# Altium schematic symbol library Amplifiers.SchLib: 46 symbols
Pins are listed as number, name and electrical type; pins without a type are passive.

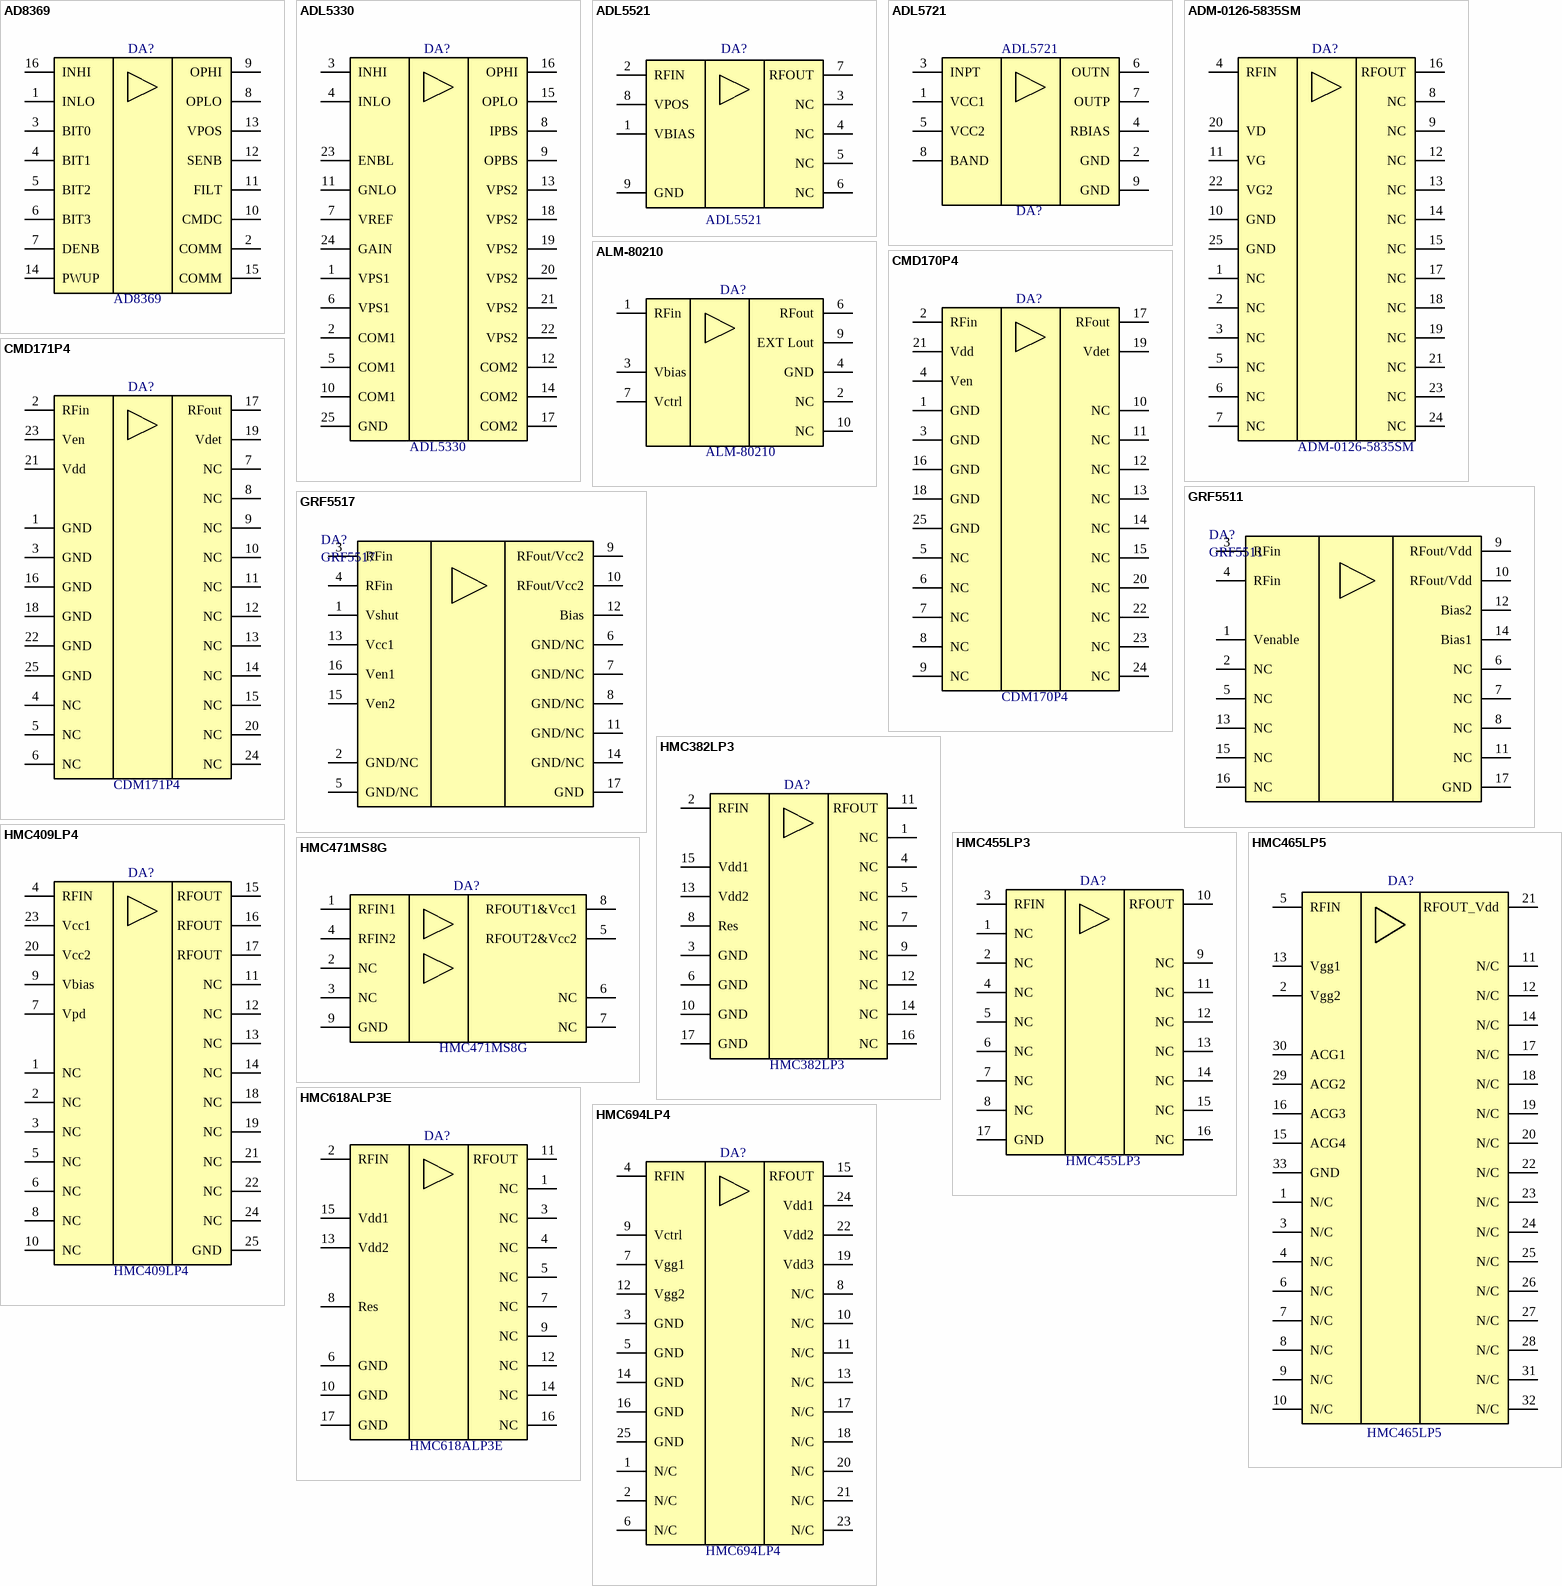
[diagram p0: symbols AD8369 to HMC694LP4]

## AD8369
designator DA?
45 dB Digitally Controlled VGA LF to 600 MHz; Manufacturer: Analog Devices; PartNumber: AD8369
footprint SOP16P65_500X640X120L60X24N (Small Outline Pkg (SOP), 0.65 mm pitch; 16 pin, 5.00 mm L X 4.40 mm W X 1.20 mm H body)
pins: 1 INLO, 2 COMM, 3 BIT0, 4 BIT1, 5 BIT2, 6 BIT3, 7 DENB, 8 OPLO, 9 OPHI, 10 CMDC, 11 FILT, 12 SENB, 13 VPOS, 14 PWUP, 15 COMM, 16 INHI

## ADL5330
designator DA?
10 MHz to 3 GHz VGA with 60 dB Gain Control Range; Manufacturer: Analog Devices; PartNumber: ADL5330
footprint ADL5330 (AD 24-Lead Lead Frame Chip Scale Package  [LFCSP_VQ] 4 mm ? 4 mm Body, Very Thin Quad  (CP-24-2))
pins: 1 VPS1, 2 COM1, 3 INHI, 4 INLO, 5 COM1, 6 VPS1, 7 VREF, 8 IPBS, 9 OPBS, 10 COM1, 11 GNLO, 12 COM2, 13 VPS2, 14 COM2, 15 OPLO, 16 OPHI, 17 COM2, 18 VPS2, 19 VPS2, 20 VPS2, 21 VPS2, 22 VPS2, 23 ENBL, 24 GAIN, 25 GND

## ADL5521
designator DA?
400 MHz to 4000 MHz Low Noise Amplifier; Manufacturer: Analog Devices; PartNumber: ADL5521
footprint SON9P50_300X300X90L40X24T174X145N (Small Outline No-Lead (SON with Tab), 0.50 mm pitch; 8 pin, 3.00 mm L X 3.00 mm W X 0.90 mm H body)
pins: 1 VBIAS, 2 RFIN, 3 NC, 4 NC, 5 NC, 6 NC, 7 RFOUT, 8 VPOS, 9 GND

## ADL5721
designator DA?
5.9 GHz to 8.5 GHz, Low Noise Amplifier; Manufacturer: Analog Devices; PartNumber: ADL5721
footprint SON9P50_200X200X60L35X25T160X100N (Small Outline No-Lead (SON with Tab), 0.50 mm pitch; 8 pin, 2.00 mm L X 2.00 mm W X 0.60 mm H body)
pins: 1 VCC1, 2 GND, 3 INPT, 4 RBIAS, 5 VCC2, 6 OUTN, 7 OUTP, 8 BAND, 9 GND

## ADM-0126-5835SM
designator DA?
Broadband distributed amplifier 0.7 to 26.5 GHz; Manufacturer: Broadcom; PartNumber: ADM-0126-5835SM
footprint PQFN25P50_390X390X90L32X30T250N (Pullback Quad Flat No-Lead (PQFN with Tab), 0.50 mm pitch; square, 6 pin X 6 pin, 3.90 mm L X 3.90 mm W X 0.90 mm H body)
pins: 1 NC, 2 NC, 3 NC, 4 RFIN, 5 NC, 6 NC, 7 NC, 8 NC, 9 NC, 10 GND, 11 VG, 12 NC, 13 NC, 14 NC, 15 NC, 16 RFOUT, 17 NC, 18 NC, 19 NC, 20 VD, 21 NC, 22 VG2, 23 NC, 24 NC, 25 GND

## ALM-80210
designator DA?
0.25W Analog Variable Gain Amplifier; Manufacturer: Broadcom; PartNumber: ALM-80210
footprint ALM-80210 (AVAGO ALM-80210)
pins: 1 RFin, 2 NC, 3 Vbias, 4 GND, 6 RFout, 7 Vctrl, 9 EXT Lout, 10 NC

## CMD170P4
designator DA?, comment CDM170P4
7.5-9 GHz Driver Amplifier; Manufacturer: Custom MMIC; PartNumber: CDM170P4
footprint QFN25P50_400X400X100L40X24T245N (Quad Flat No-Lead (QFN with Tab), 0.50 mm pitch; square, 6 pin X 6 pin, 4.00 mm L X 4.00 mm W X 1.00 mm H body)
pins: 1 GND, 2 RFin, 3 GND, 4 Ven, 5 NC, 6 NC, 7 NC, 8 NC, 9 NC, 10 NC, 11 NC, 12 NC, 13 NC, 14 NC, 15 NC, 16 GND, 17 RFout, 18 GND, 19 Vdet, 20 NC, 21 Vdd, 22 NC, 23 NC, 24 NC, 25 GND

## CMD171P4
designator DA?, comment CDM171P4
9.5-11 GHz Driver Amplifier; Manufacturer: Custom MMIC; PartNumber: CDM171P4
footprint QFN25P50_400X400X100L40X24T245N (Quad Flat No-Lead (QFN with Tab), 0.50 mm pitch; square, 6 pin X 6 pin, 4.00 mm L X 4.00 mm W X 1.00 mm H body)
pins: 1 GND, 2 RFin, 3 GND, 4 NC, 5 NC, 6 NC, 7 NC, 8 NC, 9 NC, 10 NC, 11 NC, 12 NC, 13 NC, 14 NC, 15 NC, 16 GND, 17 RFout, 18 GND, 19 Vdet, 20 NC, 21 Vdd, 22 GND, 23 Ven, 24 NC, 25 GND

## GRF5511
designator DA?
High Linearity Power Amplifier Tuning Range: 0.7 to 6 GHz; Manufacturer: Guerrilla-RF; ComponentLink1Description: Guerrilla-RF page; ComponentLink1URL: https://www.guerrilla-rf.com/products/detail/sku/GRF5511; PartNumber: GRF5511
footprint GRF5511 (Guerrilla-RF 3.0 mm QFN-16)
pins: 1 Venable, 2 NC, 3 RFin, 4 RFin, 5 NC, 6 NC, 7 NC, 8 NC, 9 RFout/Vdd, 10 RFout/Vdd, 11 NC, 12 Bias2, 13 NC, 14 Bias1, 15 NC, 16 NC, 17 GND

## GRF5517
designator DA?
High Linearity Power Amplifier Tuning Range: 1.7 to 1.8 GHz; Manufacturer: Guerrilla-RF; ComponentLink1Description: Guerrilla-RF page; ComponentLink1URL: https://www.guerrilla-rf.com/products/detail/sku/GRF5517; PartNumber: GRF5517
footprint GRF5517 (Guerrilla-RF 3.0 mm QFN-16)
pins: 1 Vshut, 2 GND/NC, 3 RFin, 4 RFin, 5 GND/NC, 6 GND/NC, 7 GND/NC, 8 GND/NC, 9 RFout/Vcc2, 10 RFout/Vcc2, 11 GND/NC, 12 Bias, 13 Vcc1, 14 GND/NC, 15 Ven2, 16 Ven1, 17 GND

## HMC382LP3
designator DA?
LOW NOISE AMPLIFIER, 1.7 - 2.2 GHz; Manufacturer: Analog Devices; PartNumber: HMC382LP3
footprint QFN17P50_300X300X100L40X24T173N (Quad Flat No-Lead (QFN with Tab), 0.50 mm pitch; square, 4 pin X 4 pin, 3.00 mm L X 3.00 mm W X 1.00 mm H body)
pins: 1 NC, 2 RFIN, 3 GND, 4 NC, 5 NC, 6 GND, 7 NC, 8 Res, 9 NC, 10 GND, 11 RFOUT, 12 NC, 13 Vdd2, 14 NC, 15 Vdd1, 16 NC, 17 GND

## HMC409LP4
designator DA?
GaAs InGaP HBT 1 WATT POWER AMPLIFIER, 3.3 - 3.8 GHz; Manufacturer: Analog Devices; PartNumber: HMC409LP4
footprint QFN25P50_400X400X100L40X24T280N (Quad Flat No-Lead (QFN with Tab), 0.50 mm pitch; square, 6 pin X 6 pin, 4.00 mm L X 4.00 mm W X 1.00 mm H body)
pins: 1 NC, 2 NC, 3 NC, 4 RFIN, 5 NC, 6 NC, 7 Vpd, 8 NC, 9 Vbias, 10 NC, 11 NC, 12 NC, 13 NC, 14 NC, 15 RFOUT, 16 RFOUT, 17 RFOUT, 18 NC, 19 NC, 20 Vcc2, 21 NC, 22 NC, 23 Vcc1, 24 NC, 25 GND

## HMC455LP3
designator DA?
InGaP HBT ½ Watt High IP3 AMPLIFIER, 1.7 - 2.5 GHz; Manufacturer: Analog Devices; PartNumber: HMC455LP3
footprint QFN17P50_300X300X100L40X24T173N (Quad Flat No-Lead (QFN with Tab), 0.50 mm pitch; square, 4 pin X 4 pin, 3.00 mm L X 3.00 mm W X 1.00 mm H body)
pins: 1 NC, 2 NC, 3 RFIN, 4 NC, 5 NC, 6 NC, 7 NC, 8 NC, 9 NC, 10 RFOUT, 11 NC, 12 NC, 13 NC, 14 NC, 15 NC, 16 NC, 17 GND

## HMC465LP5
designator DA?
GaAs PHEMT MMIC MODULATOR DRIVER  AMPLIFIER, DC - 20 GHz; Naumfacturer: Analog Devices; PartNumber: HMC465LP5; ComponentLink1Description: Product Page; ComponentLink1URL: https://www.analog.com/en/products/hmc465lp5.html#product-overview; ComponentLink2Description: DataSheet; ComponentLink2URL: https://www.analog.com/media/en/technical-documentation/data-sheets/hmc465.pdf
footprint QFN33P50_500X500X90L40X25T370N (Quad Flat No-Lead (QFN with Tab), 0.50 mm pitch; square, 8 pin X 8 pin, 5.00 mm L X 5.00 mm W X 0.90 mm H body)
pins: 1 N/C, 2 Vgg2, 3 N/C, 4 N/C, 5 RFIN, 6 N/C, 7 N/C, 8 N/C, 9 N/C, 10 N/C, 11 N/C, 12 N/C, 13 Vgg1, 14 N/C, 15 ACG4, 16 ACG3, 17 N/C, 18 N/C, 19 N/C, 20 N/C, 21 RFOUT_Vdd, 22 N/C, 23 N/C, 24 N/C, 25 N/C, 26 N/C, 27 N/C, 28 N/C, 29 ACG2, 30 ACG1, 31 N/C, 32 N/C, 33 GND

## HMC471MS8G
designator DA?
SiGe HBT DUAL CHANNEL GAIN BLOCK MMIC AMPLIFIER, DC - 5 GHz; Manufacturer: Analog Devices; PartNumber: HMC471MS8G
footprint SOP9P65_300X488X110L60X30T241X178N (Small Outline Pkg (SOP with Tab), 0.65 mm pitch; 8 pin, 3.00 mm L X 3.00 mm W X 1.10 mm H body)
pins: 1 RFIN1, 2 NC, 3 NC, 4 RFIN2, 5 RFOUT2&Vcc2, 6 NC, 7 NC, 8 RFOUT1&Vcc1, 9 GND

## HMC618ALP3E
designator DA?
GaAs SMT pHEMT LOW NOISE AMPLIFIER, 1.2 - 2.2 GHz; Manufacturer: Analog Devices; PartNumber: HMC618ALP3E
footprint QFN17P50_300X300X100L40X24T173N (Quad Flat No-Lead (QFN with Tab), 0.50 mm pitch; square, 4 pin X 4 pin, 3.00 mm L X 3.00 mm W X 1.00 mm H body)
pins: 1 NC, 2 RFIN, 3 NC, 4 NC, 5 NC, 6 GND, 7 NC, 8 Res, 9 NC, 10 GND, 11 RFOUT, 12 NC, 13 Vdd2, 14 NC, 15 Vdd1, 16 NC, 17 GND

## HMC694LP4
designator DA?
GaAs MMIC ANALOG VARIABLE GAIN AMPLIFIER, 6 - 17 GHz; Manufacturer: Analog Devices; PartNumber: HMC694LP4
footprint QFN25P50_400X400X100L40X24T280N (Quad Flat No-Lead (QFN with Tab), 0.50 mm pitch; square, 6 pin X 6 pin, 4.00 mm L X 4.00 mm W X 1.00 mm H body)
pins: 1 N/C, 2 N/C, 3 GND, 4 RFIN, 5 GND, 6 N/C, 7 Vgg1, 8 N/C, 9 Vctrl, 10 N/C, 11 N/C, 12 Vgg2, 13 N/C, 14 GND, 15 RFOUT, 16 GND, 17 N/C, 18 N/C, 19 Vdd3, 20 N/C, 21 N/C, 22 Vdd2, 23 N/C, 24 Vdd1, 25 GND

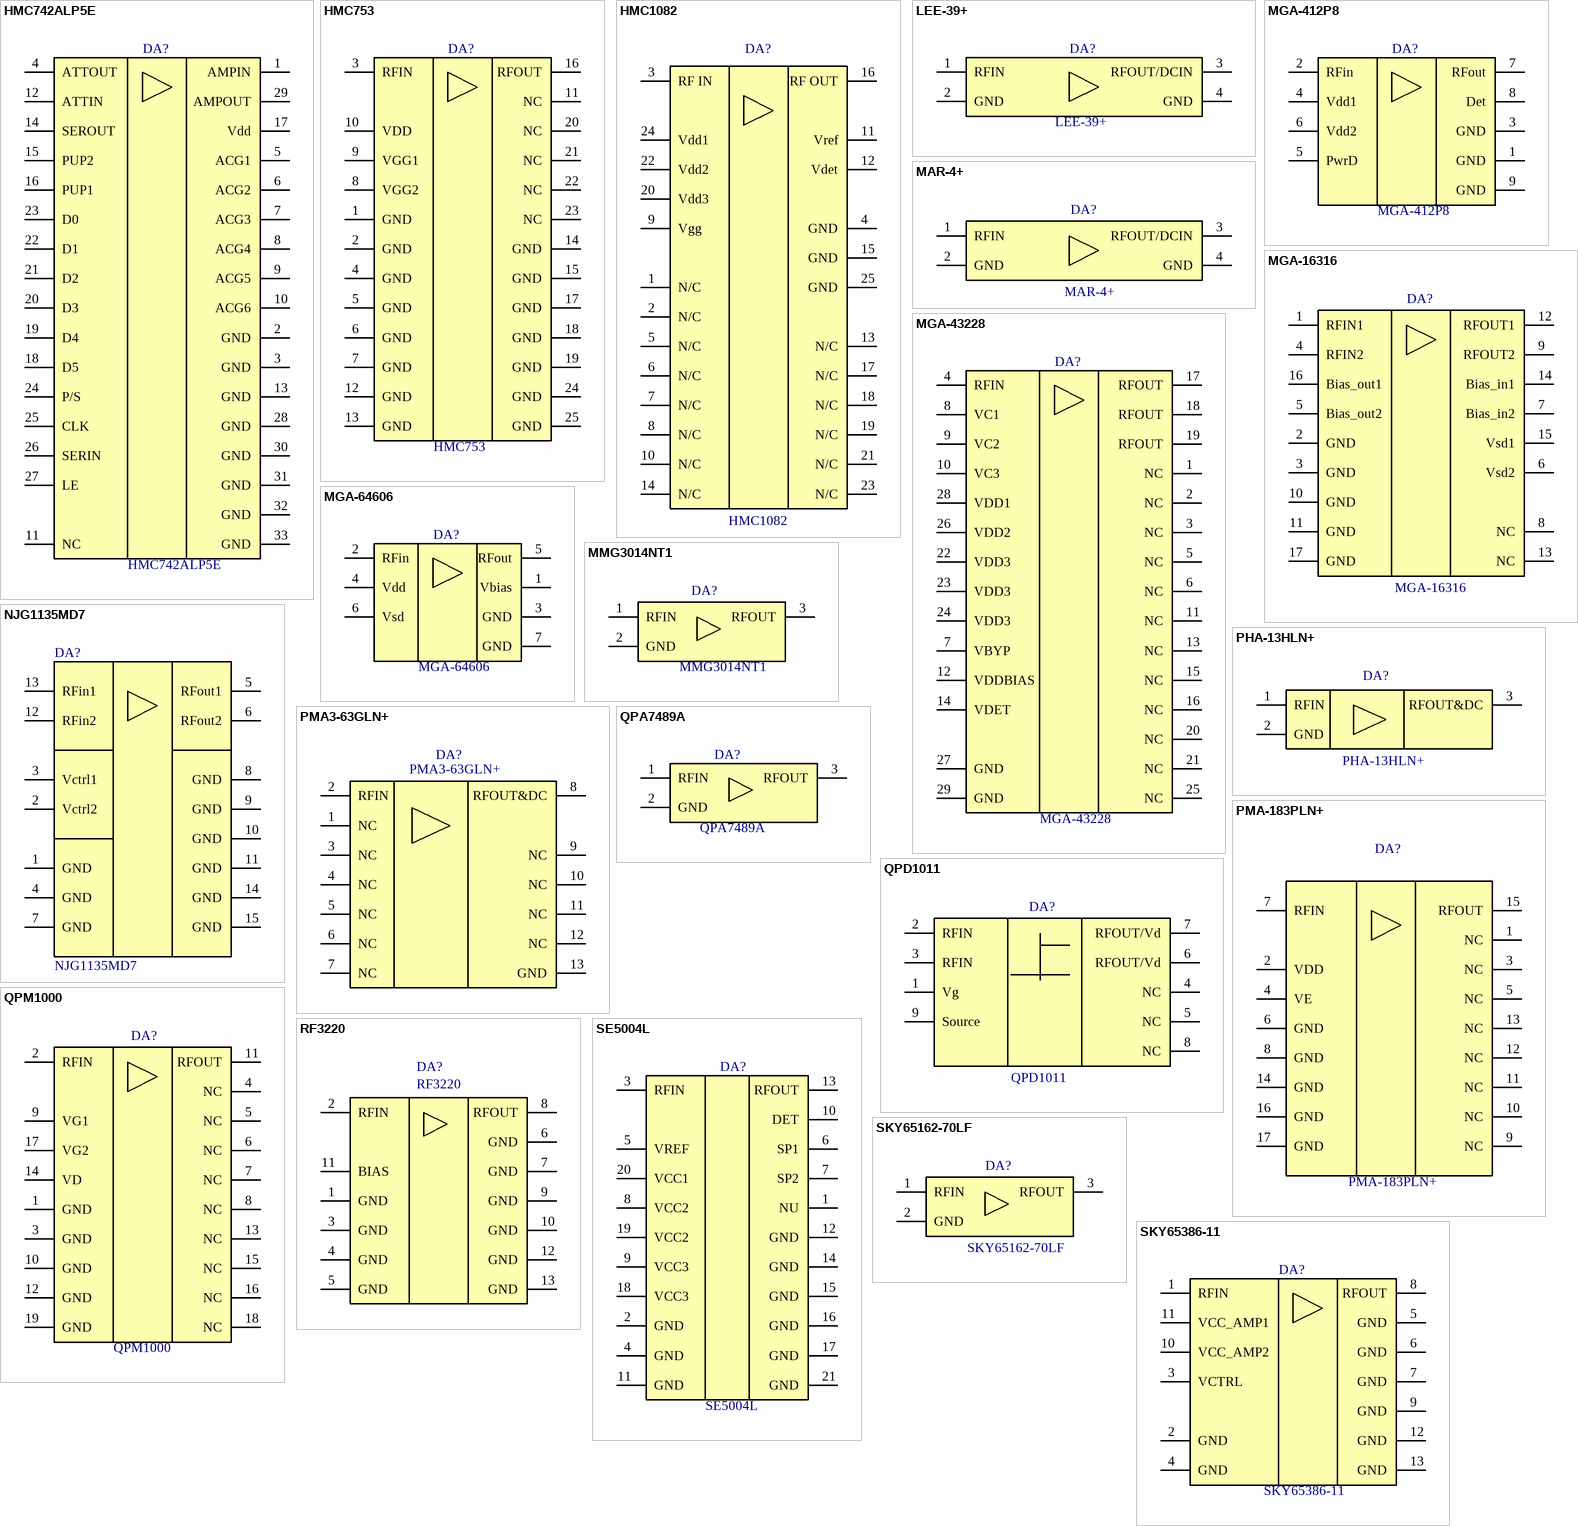
[diagram p1: symbols HMC742ALP5E to SKY65386-11]

## HMC742ALP5E
designator DA?
0.5 dB LSB GaAs MMIC 6-BIT DIGITAL VARIABLE GAIN AMPLIFIER, 70 MHz - 4 GHz; Manufacturer: Analog Devices; PartNumber: HMC742ALP5E
footprint QFN33P50_500X500X100L40X24T380N (Quad Flat No-Lead (QFN with Tab), 0.50 mm pitch; square, 8 pin X 8 pin, 5.00 mm L X 5.00 mm W X 1.00 mm H body)
pins: 1 AMPIN, 2 GND, 3 GND, 4 ATTOUT, 5 ACG1, 6 ACG2, 7 ACG3, 8 ACG4, 9 ACG5, 10 ACG6, 11 NC, 12 ATTIN, 13 GND, 14 SEROUT, 15 PUP2, 16 PUP1, 17 Vdd, 18 D5, 19 D4, 20 D3, 21 D2, 22 D1, 23 D0, 24 P/S, 25 CLK, 26 SERIN, 27 LE, 28 GND, 29 AMPOUT, 30 GND, 31 GND, 32 GND, 33 GND

## HMC753
designator DA?
1 GHz to 11 GHz, GaAs, HEMT, MMIC Low Noise Amplifier; Manufacturer: Analog Devices; PartNumber: HMC753
footprint QFN25P50_400X400X95L40X25T270N (Quad Flat No-Lead (QFN with Tab), 0.50 mm pitch; square, 6 pin X 6 pin, 4.00 mm L X 4.00 mm W X 0.95 mm H body)
pins: 1 GND, 2 GND, 3 RFIN, 4 GND, 5 GND, 6 GND, 7 GND, 8 VGG2, 9 VGG1, 10 VDD, 11 NC, 12 GND, 13 GND, 14 GND, 15 GND, 16 RFOUT, 17 GND, 18 GND, 19 GND, 20 NC, 21 NC, 22 NC, 23 NC, 24 GND, 25 GND

## HMC1082
designator DA?
Power Amplifier 5.5-18 GHz, Gain 22 dB, P1dBout 24 dBm; Manufacturer: Analog Devices; PartNumber: HMC1082
footprint QFN25P50_400X400X100L40X24T280N (Quad Flat No-Lead (QFN with Tab), 0.50 mm pitch; square, 6 pin X 6 pin, 4.00 mm L X 4.00 mm W X 1.00 mm H body)
pins: 1 N/C, 2 N/C, 3 RF IN, 4 GND, 5 N/C, 6 N/C, 7 N/C, 8 N/C, 9 Vgg, 10 N/C, 11 Vref, 12 Vdet, 13 N/C, 14 N/C, 15 GND, 16 RF OUT, 17 N/C, 18 N/C, 19 N/C, 20 Vdd3, 21 N/C, 22 Vdd2, 23 N/C, 24 Vdd1, 25 GND

## LEE-39+
designator DA?
Monolithic Amplifier DC-8GHz; Manufacturer: Mini-Circuits; PartNumber: LEE-39+
footprint FG873 (Mini-Circuits case FG873)
pins: 1 RFIN, 2 GND, 3 RFOUT/DCIN, 4 GND

## MAR-4+
designator DA?
Murata Amplifier DC-1 GHz IP3 25.5 dBm; Manufacturer: Mini-Circuits; PartNumber: MAR-4+
footprint MAR-4+ CASE VV105 (Mini-Circuits CASE VV105)
pins: 1 RFIN, 2 GND, 3 RFOUT/DCIN, 4 GND

## MGA-412P8
designator DA?
GaAs Enhancement-mode pHEMT Power Amplifier optimized for IEEE 802.11b/g applications; Manufacturer: Broadcom; PartNumber: MGA-412P8
footprint MGA-412P8 (Small Outline No-Lead (SON with Tab), 0.50 mm pitch; 8 pin, 2.00 mm L X 2.00 mm W X 0.80 mm H body)
pins: 1 GND, 2 RFin, 3 GND, 4 Vdd1, 5 PwrD, 6 Vdd2, 7 RFout, 8 Det, 9 GND

## MGA-16316
designator DA?
Dual LNA for Balanced Application 1950 – 4000 MHz; Manufacturer: Broadcom; PartNumber: MGA-16316
footprint QFN17P65_400X400X95L55X30T210N (Quad Flat No-Lead (QFN with Tab), 0.65 mm pitch; square, 4 pin X 4 pin, 4.00 mm L X 4.00 mm W X 0.95 mm H body)
pins: 1 RFIN1, 2 GND, 3 GND, 4 RFIN2, 5 Bias_out2, 6 Vsd2, 7 Bias_in2, 8 NC, 9 RFOUT2, 10 GND, 11 GND, 12 RFOUT1, 13 NC, 14 Bias_in1, 15 Vsd1, 16 Bias_out1, 17 GND

## MGA-43228
designator DA?
(2.3–2.5) GHz 29dBm High Linearity Wireless Data Power Amplifier; Manufacturer: Broadcom; PartNumber: MGA-43228
footprint QFN29P50_500X500X90L40X25T360N (Quad Flat No-Lead (QFN with Tab), 0.50 mm pitch; square, 7 pin X 7 pin, 5.00 mm L X 5.00 mm W X 0.90 mm H body)
pins: 1 NC, 2 NC, 3 NC, 4 RFIN, 5 NC, 6 NC, 7 VBYP, 8 VC1, 9 VC2, 10 VC3, 11 NC, 12 VDDBIAS, 13 NC, 14 VDET, 15 NC, 16 NC, 17 RFOUT, 18 RFOUT, 19 RFOUT, 20 NC, 21 NC, 22 VDD3, 23 VDD3, 24 VDD3, 25 NC, 26 VDD2, 27 GND, 28 VDD1, 29 GND

## MGA-64606
designator DA?
Low Noise Amplifi er with switchable Bypass/Shutdown Mode in Low Profi le Package; Manufacturer: Broadcom; PartNumber: MGA-64606
footprint PSON7P50_130X200X55L25X25T110N (Pullback Small Outline No-Lead (PSON with Tab), 0.50 mm pitch; 6 pin, 1.30 mm L X 2.00 mm W X 0.55 mm H body)
pins: 1 Vbias, 2 RFin, 3 GND, 4 Vdd, 5 RFout, 6 Vsd, 7 GND

## MMG3014NT1
designator DA?
Heterojunction Bipolar Transistor  Technology (InGaP HBT) Broadband High Linearity Amplifier; Manufacturer: NXP; PartNumber: MMG3014NT1
footprint SOT89-150P415X160-3N (SOT89, 3-Leads, Body 4.50x2.50mm, Pitch 1.50mm, Lead Span 4.1mm, IPC Medium Density)
pins: 1 RFIN, 2 GND, 3 RFOUT

## NJG1135MD7
designator DA?
Dual Band LNA; Manufacturer: Analog Devices; Cathegory: New Japan Radio; PartNumber: NJG1135MD7; ComponentLink1Description: DataSheet; ComponentLink1URL: https://ru.mouser.com/datasheet/2/294/NJG1135MD7_E-275416.pdf
footprint NJG1135MD7
pins: 1 GND, 2 Vctrl2, 3 Vctrl1, 4 GND, 5 RFout1, 6 RFout2, 7 GND, 8 GND, 9 GND, 10 GND, 11 GND, 12 RFin2, 13 RFin1, 14 GND, 15 GND

## PHA-13HLN+
designator DA?
Ultra High Dynamic RangeMonolithic Amplifier 50Ω 1MHz to 1 GHz; Manufacturer: Mini-Circuits; PartNumber: PHA-13HLN+; ComponentLink1Description: Product Page; ComponentLink1URL: https://www.minicircuits.com/WebStore/dashboard.html?model=PHA-13LN%2B
footprint DF782 (Mini-Circuits case DF782)
pins: 1 RFIN, 2 GND, 3 RFOUT&DC

## PMA3-63GLN+
designator DA?
SMT Low Noise Amplifier, 1800 - 6000 MHz, 50Ω; Manufacturer: Mini-Circuits; PartNumber: PMA3-63GLN+; ComponentLink1Description: Mini-circuits page; ComponentLink1URL: https://www.minicircuits.com/WebStore/dashboard.html?model=PMA3-63GLN%2B
footprint QFN13P51_300X300X99L41X23T145N (Quad Flat No-Lead (QFN with Tab), 0.51 mm pitch; square, 3 pin X 3 pin, 3.00 mm L X 3.00 mm W X 0.99 mm H body)
pins: 1 NC, 2 RFIN, 3 NC, 4 NC, 5 NC, 6 NC, 7 NC, 8 RFOUT&DC, 9 NC, 10 NC, 11 NC, 12 NC, 13 GND

## PMA-183PLN+
designator DA?
SMT Low Noise Amplifier, 6000 - 18000 MHz, 50Ω; Manufacturer: Mini-Circuits; PartNumber: PMA-183PLN+; ComponentLink1Description: ProductPage; ComponentLink1URL: https://www.minicircuits.com/WebStore/dashboard.html?model=PMA-183PLN%2B
footprint JV2579 (QFN, 17-Leads, Body   2.5x3.5mm, Pitch 0.51mm, Thermal Pad 2x1mm, IPC Medium Density)
pins: 1 NC, 2 VDD, 3 NC, 4 VE, 5 NC, 6 GND, 7 RFIN, 8 GND, 9 NC, 10 NC, 11 NC, 12 NC, 13 NC, 14 GND, 15 RFOUT, 16 GND, 17 GND

## QPA7489A
designator DA?
DC – 3500 MHz Cascadable SiGe HBT Amplifier; Manufacturer: Qorvo; PartNumber: QPA7489A
footprint SOT89-150P355X160-3N (SOT89, 3-Leads, Body 4.50x2.50mm, Pitch 1.50mm, Lead Span 3.5mm, IPC Medium Density)
pins: 1 RFIN, 2 GND, 3 RFOUT

## QPD1011
designator DA?
30 – 1200 MHz, 50 V, 7 W GaN RF Input-Matched Transistor; Manufacturer: Qorvo; PartNumber: QPD1011
footprint SON9P127_500X600X90L59X63T444X396N (Small Outline No-Lead (SON with Tab), 1.27 mm pitch; 8 pin, 5.00 mm L X 6.00 mm W X 0.90 mm H body)
pins: 1 Vg, 2 RFIN, 3 RFIN, 4 NC, 5 NC, 6 RFOUT/Vd, 7 RFOUT/Vd, 8 NC, 9 Source

## QPM1000
designator DA?
2 -20 GHz Limiter/Low-Noise Amplifier; Manufacturer: Qorvo; PartNumber: QPM1000
footprint QPM1000
pins: 1 GND, 2 RFIN, 3 GND, 4 NC, 5 NC, 6 NC, 7 NC, 8 NC, 9 VG1, 10 GND, 11 RFOUT, 12 GND, 13 NC, 14 VD, 15 NC, 16 NC, 17 VG2, 18 NC, 19 GND

## RF3220
designator DA?
LOW NOISE, LINEAR AMPLIFIER  HIGH LINEARITY/DRIVER AMPLIFIER; Manufacturer: Qorvo; PartNumber: RF3220
footprint RF3220 (RFMD RF3220)
pins: 1 GND, 2 RFIN, 3 GND, 4 GND, 5 GND, 6 GND, 7 GND, 8 RFOUT, 9 GND, 10 GND, 11 BIAS, 12 GND, 13 GND

## SE5004L
designator DA?
5 GHz, 26dBm Power Amplifier with Power Detector; Manufacturer: Skyworks; PartNumber: SE5004L
footprint QFN21P50_400X400X90L50X25T250N (Quad Flat No-Lead (QFN with Tab), 0.50 mm pitch; square, 5 pin X 5 pin, 4.00 mm L X 4.00 mm W X 0.90 mm H body)
pins: 1 NU, 2 GND, 3 RFIN, 4 GND, 5 VREF, 6 SP1, 7 SP2, 8 VCC2, 9 VCC3, 10 DET, 11 GND, 12 GND, 13 RFOUT, 14 GND, 15 GND, 16 GND, 17 GND, 18 VCC3, 19 VCC2, 20 VCC1, 21 GND

## SKY65162-70LF
designator DA?
400-2700 MHz Linear Power Amplifier; Manufacturer: Skyworks; PartNumber: SKY65162-70LF
footprint DPAK4P150_409X160L104X55T250X175N (DPAK, 1.50 mm pitch; 3 pin, 2.44 mm L X 4.50 mm W X 1.60 mm H body)
pins: 1 RFIN, 2 GND, 3 RFOUT

## SKY65386-11
designator DA?
2575 to 2735 MHz Variable Gain Amplifier; Manufacturer: Skyworks; PartNumber: SKY65386-11
footprint PQFN165P869X869X145_HS-13N (PQFN, 12-Leads, Body 8.69x8.69mm, Pitch 1.65mm/1.91mm, Thermal Pad 4.87x4.87mm, IPC Medium Density)
pins: 1 RFIN, 2 GND, 3 VCTRL, 4 GND, 5 GND, 6 GND, 7 GND, 8 RFOUT, 9 GND, 10 VCC_AMP2, 11 VCC_AMP1, 12 GND, 13 GND

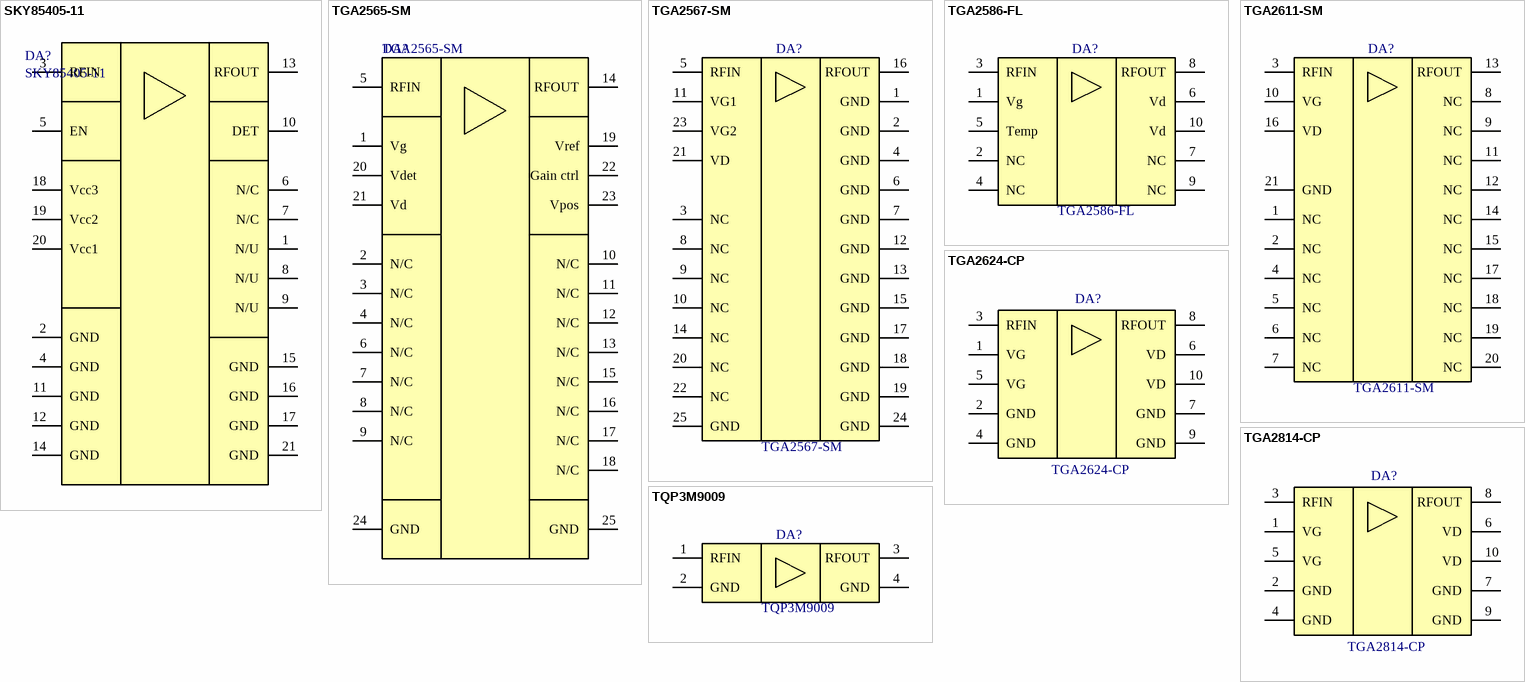
[diagram p2: symbols SKY85405-11 to TQP3M9009]

## SKY85405-11
designator DA?
High-Power Power Amplifier with Integrated Power Detector; Manufacturer: Skyworks; ComponentLink1Description: ProductSummary; ComponentLink1URL: http://www.skyworksinc.com/uploads/documents/SKY85405_11_PS_203617A.pdf; ComponentLink2Description: DataSheet; ComponentLink2URL: http://www.skyworksinc.com/uploads/documents/ISO13316_203249B.pdf; ComponentLink3Description: ApplicationNote; ComponentLink3URL: http://www.skyworksinc.com/uploads/documents/SKY85405_11_203840A_AN.pdf; Category: Power Amplifier; PartNumber: SKY85405-11
footprint PQFN50P400X400X100_HS-21N (PQFN, 20-Leads, Body 4,00x4,00mm, Pitch 0,50mm, Thermal Pad 2,10x2,10mm, IPC Medium Density)
pins: 1 N/U, 2 GND, 3 RFIN, 4 GND, 5 EN, 6 N/C, 7 N/C, 8 N/U, 9 N/U, 10 DET, 11 GND, 12 GND, 13 RFOUT, 14 GND, 15 GND, 16 GND, 17 GND, 18 Vcc3, 19 Vcc2, 20 Vcc1, 21 GND

## TGA2565-SM
designator DA?
Medium Power Amplifier, 11-17 GHz; Manufacturer: Qorvo; Category: Power Amplifier; PartNumber: TGA2565-SM
footprint PQFN50P400X400X90_HS-25N (PQFN, 24-Leads, Body 4,00x4,00mm, Pitch 0,50mm, Thermal Pad 2,60x2,60mm, IPC Medium Density)
pins: 1 Vg, 2 N/C, 3 N/C, 4 N/C, 5 RFIN, 6 N/C, 7 N/C, 8 N/C, 9 N/C, 10 N/C, 11 N/C, 12 N/C, 13 N/C, 14 RFOUT, 15 N/C, 16 N/C, 17 N/C, 18 N/C, 19 Vref, 20 Vdet, 21 Vd, 22 Gain ctrl, 23 Vpos, 24 GND, 25 GND

## TGA2567-SM
designator DA?
2-20 GHz LNA Amplifier; Manufacturer: Qorvo; PartNumber: TGA2567-SM
footprint TGA2567-SM (Qorvo TGA-2567-SM)
pins: 1 GND, 2 GND, 3 NC, 4 GND, 5 RFIN, 6 GND, 7 GND, 8 NC, 9 NC, 10 NC, 11 VG1, 12 GND, 13 GND, 14 NC, 15 GND, 16 RFOUT, 17 GND, 18 GND, 19 GND, 20 NC, 21 VD, 22 NC, 23 VG2, 24 GND, 25 GND

## TGA2586-FL
designator DA?
7.9 – 8.4 GHz 50W GaN Power Amplifier; Manufacturer: Qorvo; PartNumber: TGA2586-FL
footprint TGA2586-FL (10 pin CuW-base, flanged  package)
pins: 1 Vg, 2 NC, 3 RFIN, 4 NC, 5 Temp, 6 Vd, 7 NC, 8 RFOUT, 9 NC, 10 Vd

## TGA2611-SM
designator DA?
2-6 GHz GaN LNA; Manufacturer: Qorvo; PartNumber: TGA2611-SM
footprint QFN21P50_400X400X90L40X25T270N (Quad Flat No-Lead (QFN with Tab), 0.50 mm pitch; square, 5 pin X 5 pin, 4.00 mm L X 4.00 mm W X 0.90 mm H body)
pins: 1 NC, 2 NC, 3 RFIN, 4 NC, 5 NC, 6 NC, 7 NC, 8 NC, 9 NC, 10 VG, 11 NC, 12 NC, 13 RFOUT, 14 NC, 15 NC, 16 VD, 17 NC, 18 NC, 19 NC, 20 NC, 21 GND

## TGA2624-CP
designator DA?
9 to 10 GHz, 16 W GaN Power Amplifier; Manufacturer: Qorvo; PartNumber: TGA2624-CP
footprint TGA2624-CP (10-lead 15x15 mm  bolt-down package with a Cu base)
pins: 1 VG, 2 GND, 3 RFIN, 4 GND, 5 VG, 6 VD, 7 GND, 8 RFOUT, 9 GND, 10 VD

## TGA2814-CP
designator DA?
3.1 to 3.6 GHz, 80W GaN Power Amplifier; Manufacturer: Qorvo; PartNumber: TGA2814-CP
footprint TGA2814-CP (10-lead 15x15 mm  bolt-down package with a Cu base)
pins: 1 VG, 2 GND, 3 RFIN, 4 GND, 5 VG, 6 VD, 7 GND, 8 RFOUT, 9 GND, 10 VD

## TQP3M9009
designator DA?
High Linearity LNA Gain Block; Manufacturer: Qorvo; PartNumber: TQP3M9009
footprint DPAK4P150_512X160L104X46T320X183N (DPAK, 1.50 mm pitch; 3 pin, 2.45 mm L X 4.50 mm W X 1.60 mm H body)
pins: 1 RFIN, 2 GND, 3 RFOUT, 4 GND